# EAGLE library part VL53L0X (library systas0)
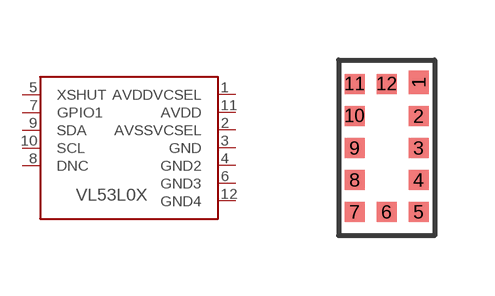
[diagram p12: symbol with the pads of VL53L0X; footprint VL53L0X]

Designator prefix -

## VL53L0X  [VL53L0X]
1  AVDDVCSEL
2  AVSSVCSEL
3  GND
4  GND2
5  XSHUT
6  GND3
7  GPIO1
8  DNC
9  SDA
10  SCL
11  AVDD
12  GND4

## Footprint VL53L0X (pad centres in mm)
smd 0.5 x 0.58: 1 0.8,1.64
smd 0.5 x 0.5: 2 0.8,0.8; 3 0.8,0; 4 0.8,-0.8; 5 0.8,-1.6; 6 0,-1.6; 7 -0.8,-1.6; 8 -0.8,-0.8; 9 -0.8,0; 10 -0.8,0.8; 11 -0.8,1.6; 12 0,1.6